# Altium integrated library ON Semi Schottky Diodes & Schottky Rectifiers.IntLib: 755 symbols (part 17 of 17)
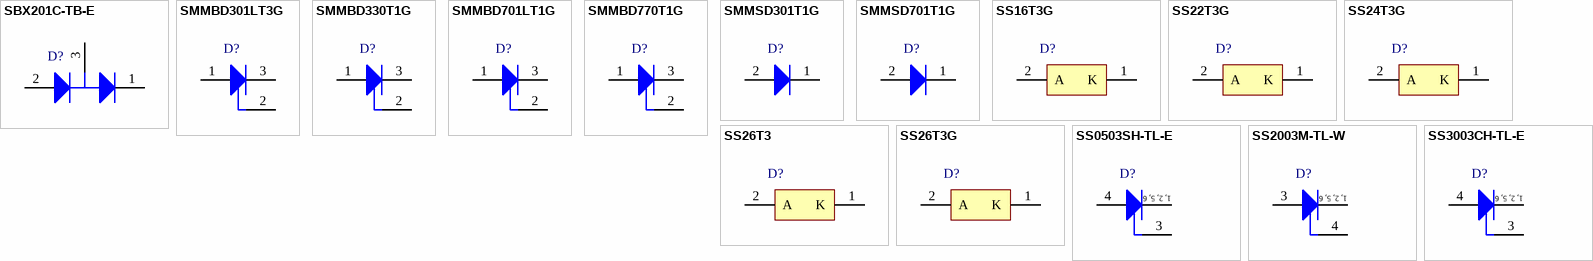
[diagram p35: symbols SBX201C-TB-E to SS3003CH-TL-E]

## SS24T3G
designator D?
Schottky Power Rectifier, 2-Pin SMB, Pb-Free, Tape and Reel; Manufacturer: On Semiconductor; PartNumber: SS24T3G; Configuration: Single; IFSM Max (A): 75; DatasheetVersion: Rev. 4; PackageVersion: Rev. J, 07/2012; PackageReference: SMB-2-403A-03; PackageDescription: 2-Pin Small Molded Package, J-Bend Lead, Body 4.33 x 3.625 mm; Supplier 1: Digi-Key; Supplier Part Number 1: SS24T3GOSTR-ND; Supplier 2: Digi-Key; Supplier Part Number 2: SS24T3GOSCT-ND; Supplier 3: Digi-Key; Supplier Part Number 3: SS24T3GOSDKR-ND; Supplier 4: Farnell; Supplier Part Number 4: 2317415; Supplier 5: Farnell; Supplier Part Number 5: 1876385; Supplier 6: Newark; Supplier Part Number 6: 10N9614; Supplier 7: Newark; Supplier Part Number 7: 42K2653; Supplier 8: Mouser; Supplier Part Number 8: 863-SS24T3G; Packing: Tape and Reel; RoHS: TRUE; Mounting Technology: Surface Mount; ComponentLink1Description: Manufacturer URL; ComponentLink1URL: http://www.onsemi.com/; ComponentLink2Description: Datasheet; ComponentLink2URL: http://www.onsemi.cn/pub_link/Collateral/SS24-D.PDF; ComponentLink3Description: Package Specification; ComponentLink3URL: http://www.onsemi.com/pub_link/Collateral/403A-03.PDF
footprint ONSC-SMB-2-403A-03_V (Molded, 2-Leads, Body 4.6x3.95mm)
pins: 1 K, 2 A

## SS26T3
designator D?
Schottky Power Rectifier, 2-Pin SMB, Tape and Reel; Manufacturer: On Semiconductor; PartNumber: SS26T3; Configuration: Single; IFSM Max (A): 40; DatasheetVersion: Rev. 5; PackageVersion: Rev. J, 07/2012; PackageReference: SMB-2-403A-03; PackageDescription: 2-Pin Small Molded Package, J-Bend Lead, Body 4.33 x 3.625 mm; Supplier 1: Digi-Key; Supplier Part Number 1: SS26T3OSCT-ND; Supplier 2: Digi-Key; Supplier Part Number 2: SS26T3OSDKR-ND; Packing: Tape and Reel; RoHS: FALSE; Mounting Technology: Surface Mount; ComponentLink1Description: Manufacturer URL; ComponentLink1URL: http://www.onsemi.com/; ComponentLink2Description: Datasheet; ComponentLink2URL: http://www.onsemi.cn/pub_link/Collateral/SS26-D.PDF; ComponentLink3Description: Package Specification; ComponentLink3URL: http://www.onsemi.com/pub_link/Collateral/403A-03.PDF
footprint ONSC-SMB-2-403A-03_V (Molded, 2-Leads, Body 4.6x3.95mm)
pins: 1 K, 2 A

## SS26T3G
designator D?
Schottky Power Rectifier, 2-Pin SMB, Pb-Free, Tape and Reel; Manufacturer: On Semiconductor; PartNumber: SS26T3G; Configuration: Single; IFSM Max (A): 40; DatasheetVersion: Rev. 5; PackageVersion: Rev. J, 07/2012; PackageReference: SMB-2-403A-03; PackageDescription: 2-Pin Small Molded Package, J-Bend Lead, Body 4.33 x 3.625 mm; Supplier 1: Digi-Key; Supplier Part Number 1: SS26T3GOSTR-ND; Supplier 2: Digi-Key; Supplier Part Number 2: SS26T3GOSCT-ND; Supplier 3: Digi-Key; Supplier Part Number 3: SS26T3GOSDKR-ND; Supplier 4: Farnell; Supplier Part Number 4: 2317411; Supplier 5: Farnell; Supplier Part Number 5: 1876358; Supplier 6: Newark; Supplier Part Number 6: 26K5195; Supplier 7: Newark; Supplier Part Number 7: 10N9615; Supplier 8: Mouser; Supplier Part Number 8: 863-SS26T3G; Packing: Tape and Reel; RoHS: TRUE; Mounting Technology: Surface Mount; ComponentLink1Description: Manufacturer URL; ComponentLink1URL: http://www.onsemi.com/; ComponentLink2Description: Datasheet; ComponentLink2URL: http://www.onsemi.cn/pub_link/Collateral/SS26-D.PDF; ComponentLink3Description: Package Specification; ComponentLink3URL: http://www.onsemi.com/pub_link/Collateral/403A-03.PDF
footprint ONSC-SMB-2-403A-03_V (Molded, 2-Leads, Body 4.6x3.95mm)
pins: 1 K, 2 A

## SS0503SH-TL-E
designator D?
Schottky Barrier Diode, 30 V, 0.5 A, Low VF, Single, 6-Pin SCH, Pb-Free, Tape and Reel; Manufacturer: On Semiconductor; PartNumber: SS0503SH-TL-E; IFSM Max (A): 5; trr Max (ns): 10; PackageReference: SCH-6; PackageDescription: 6-Pin Small Outline No-Lead, Body 1.6 x 1.5 mm, Pitch 0.5 mm; Supplier 1: Digi-Key; Supplier Part Number 1: SS0503SH-TL-E-ND; Supplier 2: Mouser; Supplier Part Number 2: 863-SS0503SH-TL-E; Configuration: Single; Packing: Tape and Reel; RoHS: TRUE; Mounting Technology: Surface Mount; ComponentLink1Description: Manufacturer URL; ComponentLink1URL: http://www.onsemi.com/; ComponentLink2Description: Datasheet; ComponentLink2URL: http://www.onsemi.cn/pub_link/Collateral/SS0503SH-D.PDF; ComponentLink3Description: Package Specification; ComponentLink3URL: http://www.onsemi.com/pub_link/Collateral/EN8043-D.PDF
footprint ONSC-SCH-6_V (SON, 6-Leads, Body 1.6x1.5mm, Pitch 0.5mm)
pins: 1 K, 2 K, 3 NC, 4 A, 5 K, 6 K
text: 1, 2, 5, 6

## SS2003M-TL-W
designator D?
Schottky Barrier Diode, 30 V, 2 A, Low VF, Single, 6-Pin MCPH, Pb-Free, Tape and Reel; Manufacturer: On Semiconductor; PartNumber: SS2003M-TL-W; IFSM Max (A): 10; trr Max (ns): 20; PackageVersion: Rev. O, 12/2011; PackageReference: MCPH-6-419AS; PackageDescription: 6-Pin Small Outline Transistor, Body 2 x 1.6 mm, Pitch 0.65 mm; Supplier 1: Newark; Supplier Part Number 1: 72W2403; Supplier 2: Mouser; Supplier Part Number 2: 863-SS2003M-TL-W; Configuration: Single; Packing: Tape and Reel; RoHS: TRUE; Mounting Technology: Surface Mount; ComponentLink1Description: Manufacturer URL; ComponentLink1URL: http://www.onsemi.com/; ComponentLink2Description: Datasheet; ComponentLink2URL: http://www.onsemi.cn/pub_link/Collateral/EN8345-D.PDF; ComponentLink3Description: Package Specification; ComponentLink3URL: http://www.onsemi.com/pub_link/Collateral/419AS.PDF
footprint ONSC-MCPH-6-419AS_N (SOT23, 6-Leads, Body 2.06x1.66mm, Pitch 0.65mm, IPC Medium Density)
footprint ONSC-MCPH-6-419AS_L (SOT23, 6-Leads, Body 2.06x1.66mm, Pitch 0.65mm, IPC High Density)
footprint ONSC-MCPH-6-419AS_M (SOT23, 6-Leads, Body 2.06x1.66mm, Pitch 0.65mm, IPC Low Density)
pins: 1 K, 2 K, 3 A, 4 NC, 5 K, 6 K
text: 1, 2, 5, 6

## SS3003CH-TL-E
designator D?
Schottky Barrier Diode, 30 V, 3 A, Low VF, 6-Pin CPH, Pb-Free, Tape and Reel; Manufacturer: On Semiconductor; PartNumber: SS3003CH-TL-E; Configuration: Single; IFSM Max (A): 20; PackageReference: CPH-6; PackageDescription: 6-Pin Small Outline Transistor, Body 2.9 x 1.6 mm, Pitch 0.95 mm; Supplier 1: Digi-Key; Supplier Part Number 1: SS3003CH-TL-E-ND; Supplier 2: Mouser; Supplier Part Number 2: 863-SS3003CH-TL-E; Packing: Tape and Reel; RoHS: TRUE; trr Max (ns): 20; Mounting Technology: Surface Mount; ComponentLink1Description: Manufacturer URL; ComponentLink1URL: http://www.onsemi.com/; ComponentLink2Description: Datasheet; ComponentLink2URL: http://www.onsemi.cn/pub_link/Collateral/EN8992-D.PDF; ComponentLink3Description: Package Specification; ComponentLink3URL: http://www.onsemi.com/pub_link/Collateral/CPH6001A-D.PDF
footprint ONSC-CPH-6_V (SOT23, 6-Leads, Body 2.9x1.6mm, Pitch 0.95mm)
pins: 1 K, 2 K, 3 NC, 4 A, 5 K, 6 K
text: 1, 2, 5, 6